# Altium schematic symbol library TPS7A4201DGNT.SchLib: 1 symbol
Pins are listed as number, name and electrical type; pins without a type are passive.

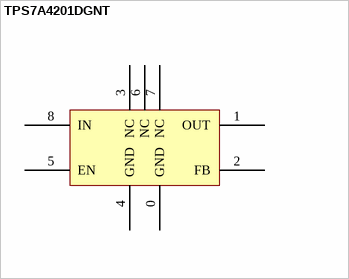
[diagram p0: symbol TPS7A4201DGNT]

## TPS7A4201DGNT
designator U?, comment 74438356150
Linear Regulator, Vin 28V 50mA; Manufacturer: Wurth Electronics; DC Current: 1.9A; Tolerance: 20%; DC Resistance: 230m; Saturation Current: 2.1A; Self Resonant Frequency: 14MHz; Value: =Inductance; Part Number: 74438356150; Manufacturer Part Number: 74438356150; Case/Package: MAPI-4020; Mount: Surface Mount; Height: 2.1mm; HelpURL: https://pl.mouser.com/datasheet/2/445/74438356150-1280620.pdf; Max Operating Temperature: 125°C; Status: MK; RoHS: Compliant; Supplier 1: eiSos; Supplier Part Number 1: 74438356150
pins: 0 GND, 1 OUT, 2 FB, 3 NC, 4 GND, 5 EN, 6 NC, 7 NC, 8 IN
1 alternate drawing of the same symbol